# Altium footprint library Footprint_lib.PcbLib: 5 footprints
Each footprint in its own frame and in the unit in brackets; x right, y up, seen from the top. Pads: shape width x height; smd on the part's side, far side on the other; paste and mask are expansions set on the pad; w line width, h text height; cw(c..) or ccw(c..) is an arc to the next point about the centre after c.
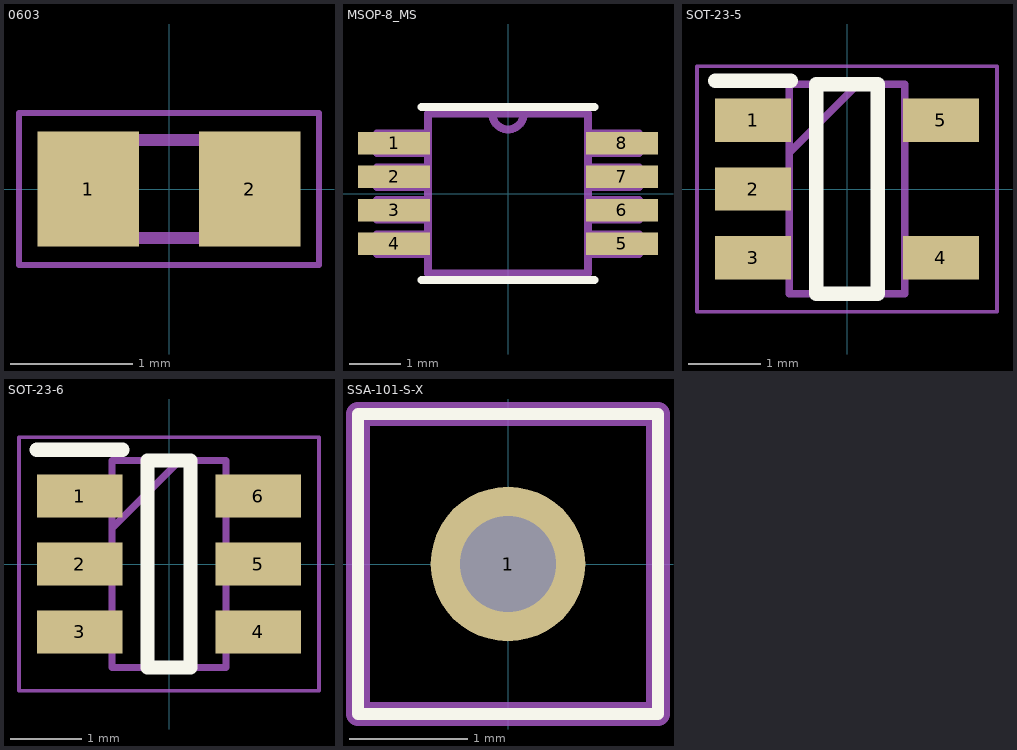
[diagram p0: the footprints below, top view; thin cyan lines are the x and y axes]

## 0603 [mm]
pads (2):
  rect 0.83x0.94 smd: 1(-0.66,0) 2(0.66,0)
Mechanical 13:
  lines w0.1: -0.8,-0.4 -0.8,0.4 0.8,0.4 0.8,-0.4 -0.8,-0.4
Mechanical 15:
  lines w0.05: -1.225,-0.62 -1.225,0.62 1.225,0.62 1.225,-0.62 -1.225,-0.62
3D body "CC0603KRX5R8BB105.stp": height 0.9, standoff 0, extent -0.8,-0.4 0.8,0.4

## MSOP-8_MS [mil]
pads (8):
  rect 55x17 smd mask+4.72: 1(-87,38.39) 2(-87,12.8) 3(-87,-12.8) 4(-87,-38.39) 5(87,-38.39) 6(87,-12.8) 7(87,12.8) 8(87,38.39)
Top Overlay:
  lines w6: -66,-66 66,-66 ; -66,66 66,66
Mechanical 13:
  lines w6: -12,61 ccw(c0,61) 12,61 ; -12,61 12,61 ; -12,61 -61,61 -61,-61 61,-61 61,61 12,61 ; -100,-46 -100,-31 -61,-31 -61,-46 -100,-46 ; -100,-20 -100,-5 -61,-5 -61,-20 -100,-20 ; -100,5 -100,20 -61,20 -61,5 -100,5 ; -100,31 -100,46 -61,46 -61,31 -100,31 ; 61,-46 61,-31 100,-31 100,-46 61,-46 ; 61,-20 61,-5 100,-5 100,-20 61,-20 ; 61,5 61,20 100,20 100,5 61,5 ; 61,31 61,46 100,46 100,31 61,31
3D body "step_temp.STEP": height 43.31, standoff 0, extent -96.45,-59.05 96.46,59.06

## SOT-23-5 [mm]
pads (5):
  rect 1.05x0.6 smd: 1(-1.3,0.95) 2(-1.3,0) 3(-1.3,-0.95) 4(1.3,-0.95) 5(1.3,0.95)
Top Overlay:
  lines w0.2: -1.825,1.5 -0.775,1.5 ; -0.425,-1.45 -0.425,1.45 0.425,1.45 0.425,-1.45 -0.425,-1.45
Mechanical 13:
  lines w0.1: -0.8,0.5 0.15,1.45 ; -0.8,-1.45 -0.8,1.45 0.8,1.45 0.8,-1.45 -0.8,-1.45
Mechanical 15:
  lines w0.05: -2.075,-1.7 -2.075,1.7 2.075,1.7 2.075,-1.7 -2.075,-1.7
3D body "MIC5317-3.3YM5-TR.stp": height 1, standoff 0, extent -1.4,-1.45 1.4,1.45

## SOT-23-6 [mm]
pads (6):
  rect 1.2x0.6 smd: 1(-1.25,0.95) 2(-1.25,0) 3(-1.25,-0.95) 4(1.25,-0.95) 5(1.25,0) 6(1.25,0.95)
Top Overlay:
  lines w0.2: -1.85,1.6 -0.65,1.6 ; -0.3,-1.45 0.3,-1.45 0.3,1.45 -0.3,1.45 -0.3,-1.45
Mechanical 13:
  lines w0.1: -0.8,0.5 0.15,1.45 ; -0.8,-1.45 0.8,-1.45 0.8,1.45 -0.8,1.45 -0.8,-1.45
Mechanical 15:
  lines w0.05: -2.1,-1.775 2.1,-1.775 2.1,1.775 -2.1,1.775 -2.1,-1.775
3D body "TS5A3160DBVR.stp": height 1.2, standoff 0, extent -1.4,-1.45 1.4,1.45

## SSA-101-S-X [mm]
pads (1):
  round 1.31 hole 0.81: 1(0,0)
Top Overlay:
  lines w0.1: -1.27,-1.27 -1.27,1.27 1.27,1.27 1.27,-1.27 -1.27,-1.27
Mechanical 13:
  lines w0.2: -1.27,-1.27 -1.27,1.27 1.27,1.27 1.27,-1.27 -1.27,-1.27
3D body "SSA-101-S-T.stp": height 5.9, standoff -3.78, extent -1.27,-1.27 1.27,1.27